# Altium schematic symbol library Header_6P.SchLib: 1 symbol
Pins are listed as number, name and electrical type; pins without a type are passive.

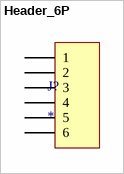
[diagram p0: symbol Header_6P]

## Header_6P
designator J?
pins: 1, 2, 3, 4, 5, 6